# Altium schematic symbol library SCH - CONNECTORS - SAMTEC - TFM-105-XX-X-D-WT.SCHLIB: 1 symbol
Pins are listed as number, name and electrical type; pins without a type are passive.

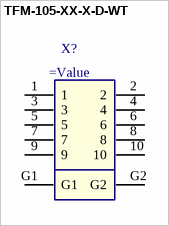
[diagram p0: symbol TFM-105-XX-X-D-WT]

## TFM-105-XX-X-D-WT
designator X?
1.27mm Terminal Strip; MF: SAMTEC; Created: 2019_04_29_AGeiger; Value: =MPN
footprint TFM-105-02-L-D-WT
footprint TFM-105-01-L-D-WT
pins: 1, 2, 3, 4, 5, 6, 7, 8, 9, 10, G1, G2